# Altium footprint library SIMCOM.PcbLib: 6 footprints
Each footprint in its own frame and in the unit in brackets; x right, y up, seen from the top. Pads: shape width x height; smd on the part's side, far side on the other; paste and mask are expansions set on the pad; w line width, h text height; cw(c..) or ccw(c..) is an arc to the next point about the centre after c.
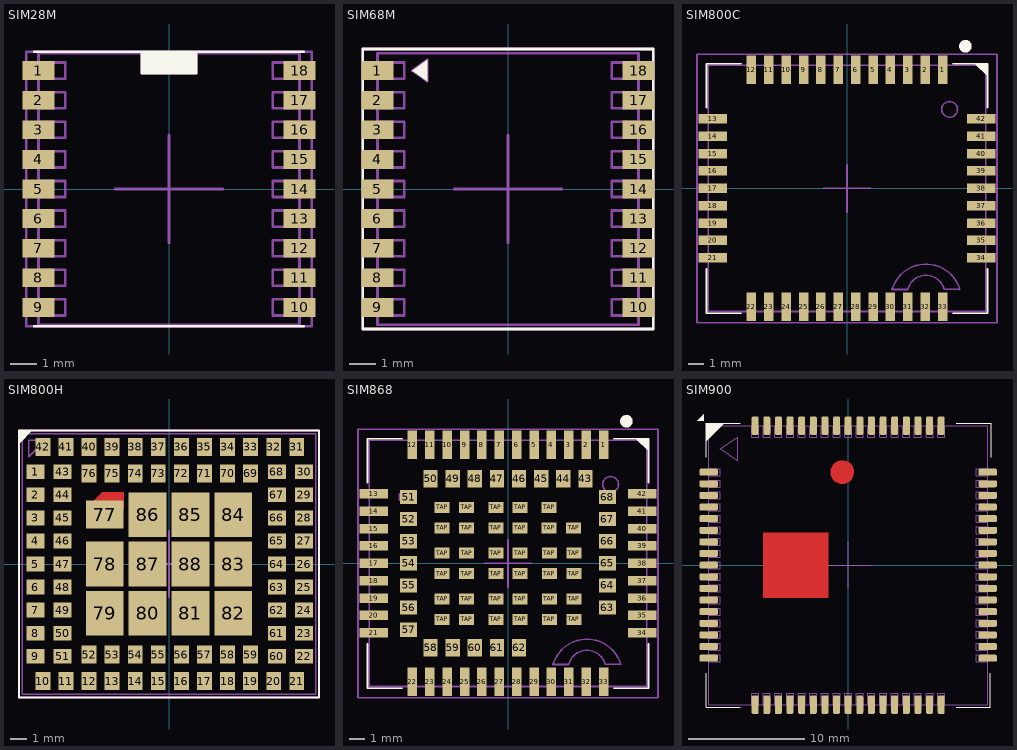
[diagram p0: the footprints below, top view; thin cyan lines are the x and y axes]

## SIM28M [mm]
height 2.5
pads (18):
  rect 1.2x0.7 smd: 1(-4.85,4.4) 2(-4.85,3.3) 3(-4.85,2.2) 4(-4.85,1.1) 5(-4.85,0) 6(-4.85,-1.1) 7(-4.85,-2.2) 8(-4.85,-3.3) 9(-4.85,-4.4) 10(4.85,-4.4) 11(4.85,-3.3) 12(4.85,-2.2) 13(4.85,-1.1) 14(4.85,0) 15(4.85,1.1) 16(4.85,2.2) 17(4.85,3.3) 18(4.85,4.4)
Top Overlay:
  region: -1,5.1 1,5.1 1,4.3 -1,4.3
  lines w0.1: -5,-5.1 5,-5.1 ; -5,5.1 5,5.1 ; -1,5.1 -1,4.3 1,4.3 1,5.1
Top Package:
  lines w0.1: -1,5.05 -1,4.3 1,4.3 1,5.05 ; 4.85,2.5 3.85,2.5 3.85,1.9 4.85,1.9 ; -4.85,-4.7 ccw(c-5.15,-4.4) -4.85,-4.1 ; -4.85,-4.7 -3.85,-4.7 -3.85,-4.1 -4.85,-4.1 ; -4.85,-4.7 -4.85,-5.05 4.85,-5.05 4.85,-4.7 ; -4.85,-4.1 -4.85,-3.6 ; -4.85,-3.6 ccw(c-5.15,-3.3) -4.85,-3 ; -4.85,-3.6 -3.85,-3.6 -3.85,-3 -4.85,-3 ; -4.85,-3 -4.85,-2.5 ; -4.85,-2.5 ccw(c-5.15,-2.2) -4.85,-1.9 ; -4.85,-2.5 -3.85,-2.5 -3.85,-1.9 -4.85,-1.9 ; -4.85,-1.9 -4.85,-1.4 ; -4.85,-1.4 ccw(c-5.15,-1.1) -4.85,-0.8 ; -4.85,-1.4 -3.85,-1.4 -3.85,-0.8 -4.85,-0.8 ; -4.85,-0.8 -4.85,-0.3 ; -4.85,-0.3 ccw(c-5.15,0) -4.85,0.3 ; -4.85,-0.3 -3.85,-0.3 -3.85,0.3 -4.85,0.3 ; -4.85,0.3 -4.85,0.8 ; -4.85,0.8 ccw(c-5.15,1.1) -4.85,1.4 ; -4.85,0.8 -3.85,0.8 -3.85,1.4 -4.85,1.4 ; -4.85,1.4 -4.85,1.9 ; -4.85,1.9 ccw(c-5.15,2.2) -4.85,2.5 ; -4.85,1.9 -3.85,1.9 -3.85,2.5 -4.85,2.5 ; -4.85,2.5 -4.85,3 ; -4.85,3 ccw(c-5.15,3.3) -4.85,3.6 ; -4.85,3 -3.85,3 -3.85,3.6 -4.85,3.6 ; -4.85,3.6 -4.85,4.1 ; -4.85,4.1 ccw(c-5.15,4.4) -4.85,4.7 ; -4.85,4.1 -3.85,4.1 -3.85,4.7 -4.85,4.7 ; -4.85,4.7 -4.85,5.05 4.85,5.05 4.85,4.7 ; 4.85,-4.7 cw(c5.15,-4.4) 4.85,-4.1 ; 4.85,-4.7 3.85,-4.7 3.85,-4.1 4.85,-4.1 ; 4.85,-4.1 4.85,-3.6 ; 4.85,-3.6 cw(c5.15,-3.3) 4.85,-3 ; 4.85,-3.6 3.85,-3.6 3.85,-3 4.85,-3 ; 4.85,-3 4.85,-2.5 ; 4.85,-2.5 cw(c5.15,-2.2) 4.85,-1.9 ; 4.85,-2.5 3.85,-2.5 3.85,-1.9 4.85,-1.9 ; 4.85,-1.9 4.85,-1.4 ; 4.85,-1.4 cw(c5.15,-1.1) 4.85,-0.8 ; 4.85,-1.4 3.85,-1.4 3.85,-0.8 4.85,-0.8 ; 4.85,-0.8 4.85,-0.3 ; 4.85,-0.3 cw(c5.15,0) 4.85,0.3 ; 4.85,-0.3 3.85,-0.3 3.85,0.3 4.85,0.3 ; 4.85,0.3 4.85,0.8 ; 4.85,0.8 cw(c5.15,1.1) 4.85,1.4 ; 4.85,0.8 3.85,0.8 3.85,1.4 4.85,1.4 ; 4.85,1.4 4.85,1.9 ; 4.85,1.9 cw(c5.15,2.2) 4.85,2.5 4.85,3 ; 4.85,3 cw(c5.15,3.3) 4.85,3.6 ; 4.85,3 3.85,3 3.85,3.6 4.85,3.6 ; 4.85,3.6 4.85,4.1 ; 4.85,4.1 cw(c4.846,4.4) 4.85,4.7 ; 4.85,4.1 3.85,4.1 3.85,4.7 4.85,4.7
Top Border:
  lines w0.1: -2,0 0,0 ; 0,-2 0,0 ; 0,2 0,0 ; 2,0 0,0 ; -5.3,-5.1 5.3,-5.1 5.3,5.1 -5.3,5.1 -5.3,-5.1
3D body "SIM28M.stp": height 2.55, standoff -0.01, extent -4.86,-5.05 4.86,5.05

## SIM68M [mm]
height 2.5
pads (18):
  rect 1.2x0.7 smd: 1(-4.85,4.4) 2(-4.85,3.3) 3(-4.85,2.2) 4(-4.85,1.1) 5(-4.85,0) 6(-4.85,-1.1) 7(-4.85,-2.2) 8(-4.85,-3.3) 9(-4.85,-4.4) 10(4.85,-4.4) 11(4.85,-3.3) 12(4.85,-2.2) 13(4.85,-1.1) 14(4.85,0) 15(4.85,1.1) 16(4.85,2.2) 17(4.85,3.3) 18(4.85,4.4)
Top Overlay:
  region: -3,4 -3.55,4.4 -3,4.8
  lines w0.1: -5.4,-5.2 -5.4,5.2 5.4,5.2 5.4,-5.2 -5.4,-5.2
Top Package:
  lines w0.1: 4.85,2.5 3.85,2.5 3.85,1.9 4.85,1.9 ; -4.85,-4.7 ccw(c-5.15,-4.4) -4.85,-4.1 ; -4.85,-4.7 -3.85,-4.7 -3.85,-4.1 -4.85,-4.1 ; -4.85,-4.7 -4.85,-5.05 4.85,-5.05 4.85,-4.7 ; -4.85,-4.1 -4.85,-3.6 ; -4.85,-3.6 ccw(c-5.15,-3.3) -4.85,-3 ; -4.85,-3.6 -3.85,-3.6 -3.85,-3 -4.85,-3 ; -4.85,-3 -4.85,-2.5 ; -4.85,-2.5 ccw(c-5.15,-2.2) -4.85,-1.9 ; -4.85,-2.5 -3.85,-2.5 -3.85,-1.9 -4.85,-1.9 ; -4.85,-1.9 -4.85,-1.4 ; -4.85,-1.4 ccw(c-5.15,-1.1) -4.85,-0.8 ; -4.85,-1.4 -3.85,-1.4 -3.85,-0.8 -4.85,-0.8 ; -4.85,-0.8 -4.85,-0.3 ; -4.85,-0.3 ccw(c-5.15,0) -4.85,0.3 ; -4.85,-0.3 -3.85,-0.3 -3.85,0.3 -4.85,0.3 ; -4.85,0.3 -4.85,0.8 ; -4.85,0.8 ccw(c-5.15,1.1) -4.85,1.4 ; -4.85,0.8 -3.85,0.8 -3.85,1.4 -4.85,1.4 ; -4.85,1.4 -4.85,1.9 ; -4.85,1.9 ccw(c-5.15,2.2) -4.85,2.5 ; -4.85,1.9 -3.85,1.9 -3.85,2.5 -4.85,2.5 ; -4.85,2.5 -4.85,3 ; -4.85,3 ccw(c-5.15,3.3) -4.85,3.6 ; -4.85,3 -3.85,3 -3.85,3.6 -4.85,3.6 ; -4.85,3.6 -4.85,4.1 ; -4.85,4.1 ccw(c-5.15,4.4) -4.85,4.7 ; -4.85,4.1 -3.85,4.1 -3.85,4.7 -4.85,4.7 ; -4.85,4.7 -4.85,5.05 4.85,5.05 4.85,4.7 ; 4.85,-4.7 cw(c5.15,-4.4) 4.85,-4.1 ; 4.85,-4.7 3.85,-4.7 3.85,-4.1 4.85,-4.1 ; 4.85,-4.1 4.85,-3.6 ; 4.85,-3.6 cw(c5.15,-3.3) 4.85,-3 ; 4.85,-3.6 3.85,-3.6 3.85,-3 4.85,-3 ; 4.85,-3 4.85,-2.5 ; 4.85,-2.5 cw(c5.15,-2.2) 4.85,-1.9 ; 4.85,-2.5 3.85,-2.5 3.85,-1.9 4.85,-1.9 ; 4.85,-1.9 4.85,-1.4 ; 4.85,-1.4 cw(c5.15,-1.1) 4.85,-0.8 ; 4.85,-1.4 3.85,-1.4 3.85,-0.8 4.85,-0.8 ; 4.85,-0.8 4.85,-0.3 ; 4.85,-0.3 cw(c5.15,0) 4.85,0.3 ; 4.85,-0.3 3.85,-0.3 3.85,0.3 4.85,0.3 ; 4.85,0.3 4.85,0.8 ; 4.85,0.8 cw(c5.15,1.1) 4.85,1.4 ; 4.85,0.8 3.85,0.8 3.85,1.4 4.85,1.4 ; 4.85,1.4 4.85,1.9 ; 4.85,1.9 cw(c5.15,2.2) 4.85,2.5 4.85,3 ; 4.85,3 cw(c5.15,3.3) 4.85,3.6 ; 4.85,3 3.85,3 3.85,3.6 4.85,3.6 ; 4.85,3.6 4.85,4.1 ; 4.85,4.1 cw(c4.846,4.4) 4.85,4.7 ; 4.85,4.1 3.85,4.1 3.85,4.7 4.85,4.7 ; -3.55,4.4 -3,4 -3,4.8 -3.55,4.4
Top Border:
  lines w0.1: -2,0 0,0 ; 0,-2 0,0 ; 0,2 0,0 ; 2,0 0,0 ; -5.4,-5.2 5.4,-5.2 5.4,5.2 -5.4,5.2 -5.4,-5.2
3D body "SIM28M.stp": height 2.55, standoff -0.01, extent -4.86,-5.05 4.86,5.05

## SIM800C [mm]
height 2.4
pads (42):
  rect 0.6x1.8 smd: 1(6.05,7.5) 2(4.95,7.5) 3(3.85,7.5) 4(2.75,7.5) 5(1.65,7.5) 6(0.55,7.5) 7(-0.55,7.5) 8(-1.65,7.5) 9(-2.75,7.5) 10(-3.85,7.5) 11(-4.95,7.5) 12(-6.05,7.5) 22(-6.05,-7.5) 23(-4.95,-7.5) 24(-3.85,-7.5) 25(-2.75,-7.5) 26(-1.65,-7.5) 27(-0.55,-7.5) 28(0.55,-7.5) 29(1.65,-7.5) 30(2.75,-7.5) 31(3.85,-7.5) 32(4.95,-7.5) 33(6.05,-7.5)
  rect 1.8x0.6 smd: 13(-8.5,4.4) 14(-8.5,3.3) 15(-8.5,2.2) 16(-8.5,1.1) 17(-8.5,0) 18(-8.5,-1.1) 19(-8.5,-2.2) 20(-8.5,-3.3) 21(-8.5,-4.4) 34(8.5,-4.4) 35(8.5,-3.3) 36(8.5,-2.2) 37(8.5,-1.1) 38(8.5,0) 39(8.5,1.1) 40(8.5,2.2) 41(8.5,3.3) 42(8.5,4.4)
Top Overlay:
  circle w0.4: c7.5,9 r0.2
  region: 8.1,7.9 8.9,7.9 8.9,7.1
  lines w0.1: -8.9,-5.1 -8.9,-7.9 -6.7,-7.9 ; -8.9,5.1 -8.9,7.9 -6.7,7.9 ; 6.7,-7.9 8.9,-7.9 8.9,-5.1 ; 6.7,7.9 8.9,7.9 8.9,5.1
Top Package:
  circle w0.1: c6.5,5 r0.5
  lines w0.1: -8.8,-4.6 -8,-4.6 -8,-4.2 -8.8,-4.2 ; -8.8,-3.5 -8,-3.5 -8,-3.1 -8.8,-3.1 ; -8.8,-2.4 -8,-2.4 -8,-2 -8.8,-2 ; -8.8,-1.3 -8,-1.3 -8,-0.9 -8.8,-0.9 ; -8.8,-0.2 -8,-0.2 -8,0.2 -8.8,0.2 ; -8.8,0.9 -8,0.9 -8,1.3 -8.8,1.3 ; -8.8,2 -8,2 -8,2.4 -8.8,2.4 ; -8.8,3.1 -8,3.1 -8,3.5 -8.8,3.5 ; -8.8,4.2 -8,4.2 -8,4.6 -8.8,4.6 ; -6.25,-7.8 -6.25,-7 -5.85,-7 -5.85,-7.8 ; -6.25,7.8 -6.25,7 -5.85,7 -5.85,7.8 ; -5.15,-7.8 -5.15,-7 -4.75,-7 -4.75,-7.8 ; -5.15,7.8 -5.15,7 -4.75,7 -4.75,7.8 ; -4.05,-7.8 -4.05,-7 -3.65,-7 -3.65,-7.8 ; -4.05,7.8 -4.05,7 -3.65,7 -3.65,7.8 ; -2.95,-7.8 -2.95,-7 -2.55,-7 -2.55,-7.8 ; -2.95,7.8 -2.95,7 -2.55,7 -2.55,7.8 ; -1.85,-7.8 -1.85,-7 -1.45,-7 -1.45,-7.8 ; -1.85,7.8 -1.85,7 -1.45,7 -1.45,7.8 ; -0.75,-7.8 -0.75,-7 -0.35,-7 -0.35,-7.8 ; -0.75,7.8 -0.75,7 -0.35,7 -0.35,7.8 ; 0.35,-7.8 0.35,-7 0.75,-7 0.75,-7.8 ; 0.35,7.8 0.35,7 0.75,7 0.75,7.8 ; 1.45,-7.8 1.45,-7 1.85,-7 1.85,-7.8 ; 1.45,7.8 1.45,7 1.85,7 1.85,7.8 ; 2.55,-7.8 2.55,-7 2.95,-7 2.95,-7.8 ; 2.55,7.8 2.55,7 2.95,7 2.95,7.8 ; 3.65,-7.8 3.65,-7 4.05,-7 4.05,-7.8 ; 3.65,7.8 3.65,7 4.05,7 4.05,7.8 ; 3.85,-6.408 2.85,-6.408 cw(c5,-7.042) 7.15,-6.407 ; 3.85,-6.4 cw(c5,-6.685) 6.15,-6.4 7.15,-6.4 ; 4.75,-7.8 4.75,-6.8 5.15,-6.8 5.15,-7.8 ; 4.75,7.8 4.75,7 5.15,7 5.15,7.8 ; 5.85,-7.8 5.85,-7 6.25,-7 6.25,-7.8 ; 5.85,7.8 5.85,7 6.25,7 6.25,7.8 ; 8.8,-4.6 8,-4.6 8,-4.2 8.8,-4.2 ; 8.8,-3.5 8,-3.5 8,-3.1 8.8,-3.1 ; 8.8,-2.4 8,-2.4 8,-2 8.8,-2 ; 8.8,-1.3 8,-1.3 8,-0.9 8.8,-0.9 ; 8.8,-0.2 8,-0.2 8,0.2 8.8,0.2 ; 8.8,0.9 8,0.9 8,1.3 8.8,1.3 ; 8.8,2 8,2 8,2.4 8.8,2.4 ; 8.8,3.1 8,3.1 8,3.5 8.8,3.5 ; 8.8,4.2 8,4.2 8,4.6 8.8,4.6 ; -8.8,-7.8 -8.8,7.8 8.8,7.8 8.8,-7.8 -8.8,-7.8
Top Border:
  lines w0.1: -1.5,0 0,0 ; 0,-1.5 0,0 ; 0,1.5 0,0 ; 1.5,0 0,0 ; -9.5,-8.5 -9.5,8.5 9.5,8.5 9.5,-8.5 -9.5,-8.5
3D body "SIM800C.stp": height 2.43, standoff 0.09, extent -8.801,-7.843 8.799,7.857

## SIM800H [mm]
height 2.4
pads (88):
  rect 1.1x0.9 smd: 1(-8.1,5.6) 2(-8.1,4.2) 3(-8.1,2.8) 4(-8.1,1.4) 5(-8.1,0) 6(-8.1,-1.4) 7(-8.1,-2.8) 8(-8.1,-4.2) 9(-8.1,-5.6) 22(8.2,-5.6) 23(8.2,-4.2) 24(8.2,-2.8) 25(8.2,-1.4) 26(8.2,0) 27(8.2,1.4) 28(8.2,2.8) 29(8.2,4.2) 30(8.2,5.6) 43(-6.45,5.6) 44(-6.45,4.2) 45(-6.45,2.8) 46(-6.45,1.4) 47(-6.45,0) 48(-6.45,-1.4) 49(-6.45,-2.8) 50(-6.45,-4.2) 51(-6.45,-5.6) 60(6.55,-5.6) 61(6.55,-4.2) 62(6.55,-2.8) 63(6.55,-1.4) 64(6.55,0) 65(6.55,1.4) 66(6.55,2.8) 67(6.55,4.2) 68(6.55,5.6)
  rect 0.9x1.1 smd: 10(-7.65,-7.1) 11(-6.25,-7.1) 12(-4.85,-7.1) 13(-3.45,-7.1) 14(-2.05,-7.1) 15(-0.65,-7.1) 16(0.75,-7.1) 17(2.15,-7.1) 18(3.55,-7.1) 19(4.95,-7.1) 20(6.35,-7.1) 21(7.75,-7.1) 31(7.75,7.1) 32(6.35,7.1) 33(4.95,7.1) 34(3.55,7.1) 35(2.15,7.1) 36(0.75,7.1) 37(-0.65,7.1) 38(-2.05,7.1) 39(-3.45,7.1) 40(-4.85,7.1) 41(-6.25,7.1) 42(-7.65,7.1) 52(-4.85,-5.5) 53(-3.45,-5.5) 54(-2.05,-5.5) 55(-0.65,-5.5) 56(0.75,-5.5) 57(2.15,-5.5) 58(3.55,-5.5) 59(4.95,-5.5) 69(4.95,5.5) 70(3.55,5.5) 71(2.15,5.5) 72(0.75,5.5) 73(-0.65,5.5) 74(-2.05,5.5) 75(-3.45,5.5) 76(-4.85,5.5)
  rect 2.3x1.7 smd: 77(-3.9,3)
  rect 2.3x2.7 smd: 78(-3.9,0) 79(-3.9,-3) 80(-1.3,-3) 81(1.3,-3) 82(3.9,-3) 83(3.9,0) 84(3.9,3) 85(1.3,3) 86(-1.3,3) 87(-1.3,0) 88(1.3,0)
Top Layer:
  region: -2.75,3.35 -2.75,4.35 -4.05,4.35 -5.05,3.35
Top Overlay:
  region: -9.1,7.3 -9.1,8.1 -8.3,8.1
  lines w0.1: -9.1,-8.1 9.1,-8.1 9.1,8.1 -9.1,8.1 -9.1,-8.1
Top Package:
  lines w0.1: -9.1,-8.1 9.1,-8.1 9.1,8.1 -9.1,8.1 -9.1,-8.1
Top Border:
  lines w0.1: -2,0 0,0 ; 0,-2 0,0 ; 0,2 0,0 ; 2,0 0,0 ; -8.9,-7.9 8.9,-7.9 8.9,7.9 -8.9,7.9 -8.9,-7.9 ; -8.5,6.5 -8.5,7.5 -7.5,7.5 -8.5,6.5

## SIM868 [mm]
height 2.4
pads (103):
  rect 0.6x1.8 smd: 1(6.05,7.5) 2(4.95,7.5) 3(3.85,7.5) 4(2.75,7.5) 5(1.65,7.5) 6(0.55,7.5) 7(-0.55,7.5) 8(-1.65,7.5) 9(-2.75,7.5) 10(-3.85,7.5) 11(-4.95,7.5) 12(-6.05,7.5) 22(-6.05,-7.5) 23(-4.95,-7.5) 24(-3.85,-7.5) 25(-2.75,-7.5) 26(-1.65,-7.5) 27(-0.55,-7.5) 28(0.55,-7.5) 29(1.65,-7.5) 30(2.75,-7.5) 31(3.85,-7.5) 32(4.95,-7.5) 33(6.05,-7.5)
  rect 1.8x0.6 smd: 13(-8.5,4.4) 14(-8.5,3.3) 15(-8.5,2.2) 16(-8.5,1.1) 17(-8.5,0) 18(-8.5,-1.1) 19(-8.5,-2.2) 20(-8.5,-3.3) 21(-8.5,-4.4) 34(8.5,-4.4) 35(8.5,-3.3) 36(8.5,-2.2) 37(8.5,-1.1) 38(8.5,0) 39(8.5,1.1) 40(8.5,2.2) 41(8.5,3.3) 42(8.5,4.4)
  rect 0.9x1.1 smd: 43(4.9,5.35) 44(3.5,5.35) 45(2.1,5.35) 46(0.7,5.35) 47(-0.7,5.35) 48(-2.1,5.35) 49(-3.5,5.35) 50(-4.9,5.35) 58(-4.9,-5.35) 59(-3.5,-5.35) 60(-2.1,-5.35) 61(-0.7,-5.35) 62(0.7,-5.35)
  rect 1.1x0.9 smd: 51(-6.3,4.2) 52(-6.3,2.8) 53(-6.3,1.4) 54(-6.3,0) 55(-6.3,-1.4) 56(-6.3,-2.8) 57(-6.3,-4.2) 63(6.3,-2.8) 64(6.3,-1.4) 65(6.3,0) 66(6.3,1.4) 67(6.3,2.8) 68(6.3,4.2)
  rect 0.95x0.7 smd: TAP(-4.175,-3.55) TAP(-4.175,-2.25) TAP(-4.175,-0.65) TAP(-4.175,0.65) TAP(-4.175,2.25) TAP(-4.175,3.55) TAP(-2.625,-3.55) TAP(-2.625,-2.25) TAP(-2.625,-0.65) TAP(-2.625,0.65) TAP(-2.625,2.25) TAP(-2.625,3.55) TAP(-0.775,-3.55) TAP(-0.775,-2.25) TAP(-0.775,-0.65) TAP(-0.775,0.65) TAP(-0.775,2.25) TAP(-0.775,3.55) TAP(0.775,-3.55) TAP(0.775,-2.25) TAP(0.775,-0.65) TAP(0.775,0.65) TAP(0.775,2.25) TAP(0.775,3.55) TAP(2.61,2.25) TAP(2.61,3.55) TAP(2.625,-3.55) TAP(2.625,-2.25) TAP(2.625,-0.65) TAP(2.625,0.65) TAP(4.16,2.25) TAP(4.175,-3.55) TAP(4.175,-2.25) TAP(4.175,-0.65) TAP(4.175,0.65)
Top Overlay:
  circle w0.4: c7.5,9 r0.2
  region: 8.1,7.9 8.9,7.9 8.9,7.1
  lines w0.1: -8.9,-5.1 -8.9,-7.9 -6.7,-7.9 ; -8.9,5.1 -8.9,7.9 -6.7,7.9 ; 6.7,-7.9 8.9,-7.9 8.9,-5.1 ; 6.7,7.9 8.9,7.9 8.9,5.1
Top Package:
  circle w0.1: c6.5,5 r0.5
  lines w0.1: -8.8,-4.6 -8,-4.6 -8,-4.2 -8.8,-4.2 ; -8.8,-3.5 -8,-3.5 -8,-3.1 -8.8,-3.1 ; -8.8,-2.4 -8,-2.4 -8,-2 -8.8,-2 ; -8.8,-1.3 -8,-1.3 -8,-0.9 -8.8,-0.9 ; -8.8,-0.2 -8,-0.2 -8,0.2 -8.8,0.2 ; -8.8,0.9 -8,0.9 -8,1.3 -8.8,1.3 ; -8.8,2 -8,2 -8,2.4 -8.8,2.4 ; -8.8,3.1 -8,3.1 -8,3.5 -8.8,3.5 ; -8.8,4.2 -8,4.2 -8,4.6 -8.8,4.6 ; -6.25,-7.8 -6.25,-7 -5.85,-7 -5.85,-7.8 ; -6.25,7.8 -6.25,7 -5.85,7 -5.85,7.8 ; -5.15,-7.8 -5.15,-7 -4.75,-7 -4.75,-7.8 ; -5.15,7.8 -5.15,7 -4.75,7 -4.75,7.8 ; -4.05,-7.8 -4.05,-7 -3.65,-7 -3.65,-7.8 ; -4.05,7.8 -4.05,7 -3.65,7 -3.65,7.8 ; -2.95,-7.8 -2.95,-7 -2.55,-7 -2.55,-7.8 ; -2.95,7.8 -2.95,7 -2.55,7 -2.55,7.8 ; -1.85,-7.8 -1.85,-7 -1.45,-7 -1.45,-7.8 ; -1.85,7.8 -1.85,7 -1.45,7 -1.45,7.8 ; -0.75,-7.8 -0.75,-7 -0.35,-7 -0.35,-7.8 ; -0.75,7.8 -0.75,7 -0.35,7 -0.35,7.8 ; 0.35,-7.8 0.35,-7 0.75,-7 0.75,-7.8 ; 0.35,7.8 0.35,7 0.75,7 0.75,7.8 ; 1.45,-7.8 1.45,-7 1.85,-7 1.85,-7.8 ; 1.45,7.8 1.45,7 1.85,7 1.85,7.8 ; 2.55,-7.8 2.55,-7 2.95,-7 2.95,-7.8 ; 2.55,7.8 2.55,7 2.95,7 2.95,7.8 ; 3.65,-7.8 3.65,-7 4.05,-7 4.05,-7.8 ; 3.65,7.8 3.65,7 4.05,7 4.05,7.8 ; 3.85,-6.408 2.85,-6.408 cw(c5,-7.042) 7.15,-6.407 ; 3.85,-6.4 cw(c5,-6.685) 6.15,-6.4 7.15,-6.4 ; 4.75,-7.8 4.75,-6.8 5.15,-6.8 5.15,-7.8 ; 4.75,7.8 4.75,7 5.15,7 5.15,7.8 ; 5.85,-7.8 5.85,-7 6.25,-7 6.25,-7.8 ; 5.85,7.8 5.85,7 6.25,7 6.25,7.8 ; 8.8,-4.6 8,-4.6 8,-4.2 8.8,-4.2 ; 8.8,-3.5 8,-3.5 8,-3.1 8.8,-3.1 ; 8.8,-2.4 8,-2.4 8,-2 8.8,-2 ; 8.8,-1.3 8,-1.3 8,-0.9 8.8,-0.9 ; 8.8,-0.2 8,-0.2 8,0.2 8.8,0.2 ; 8.8,0.9 8,0.9 8,1.3 8.8,1.3 ; 8.8,2 8,2 8,2.4 8.8,2.4 ; 8.8,3.1 8,3.1 8,3.5 8.8,3.5 ; 8.8,4.2 8,4.2 8,4.6 8.8,4.6 ; -8.8,-7.8 8.8,-7.8 8.8,7.8 -8.8,7.8 -8.8,-7.8 ; -6.875,4 -6.225,4 -6.225,4.4 -6.875,4.4 -6.875,4
Top Border:
  lines w0.1: -1.5,0 0,0 ; 0,-1.5 0,0 ; 0,1.5 0,0 ; 1.5,0 0,0 ; -9.5,-8.5 9.5,-8.5 9.5,8.5 -9.5,8.5 -9.5,-8.5
3D body "SIM800C.stp": height 2.43, standoff 0.09, extent -8.801,-7.843 8.799,7.857

## SIM900 [mm]
height 3
pads (68):
  rrect50% 1.6x0.6 smd: 1(-12,8) 2(-12,7) 3(-12,6) 4(-12,5) 5(-12,4) 6(-12,3) 7(-12,2) 8(-12,1) 9(-12,0) 10(-12,-1) 11(-12,-2) 12(-12,-3) 13(-12,-4) 14(-12,-5) 15(-12,-6) 16(-12,-7) 17(-12,-8) 35(12,-8) 36(12,-7) 37(12,-6) 38(12,-5) 39(12,-4) 40(12,-3) 41(12,-2) 42(12,-1) 43(12,0) 44(12,1) 45(12,2) 46(12,3) 47(12,4) 48(12,5) 49(12,6) 50(12,7) 51(12,8)
  rrect50% 0.6x1.6 smd: 18(-8,-12) 19(-7,-12) 20(-6,-12) 21(-5,-12) 22(-4,-12) 23(-3,-12) 24(-2,-12) 25(-1,-12) 26(0,-12) 27(1,-12) 28(2,-12) 29(3,-12) 30(4,-12) 31(5,-12) 32(6,-12) 33(7,-12) 34(8,-12) 52(8,12) 53(7,12) 54(6,12) 55(5,12) 56(4,12) 57(3,12) 58(2,12) 59(1,12) 60(0,12) 61(-1,12) 62(-2,12) 63(-3,12) 64(-4,12) 65(-5,12) 66(-6,12) 67(-7,12) 68(-8,12)
Top Layer:
  pour cut-out: -1.107,8.821 -0.9,8.925 -0.721,9 -0.5,9 -0.286,9 -0.125,8.925 0.064,8.837 0.225,8.725 0.336,8.563 0.4,8.425 0.489,8.232 0.5,8 0.425,7.65 0.313,7.394 0.11,7.18 -0.1,7.075 -0.286,7 -0.721,7 -0.9,7.075 -1.107,7.179 -1.317,7.395 -1.4,7.575 -1.489,7.769 -1.5,8 -1.489,8.232 -1.4,8.425 -1.317,8.605
  pour cut-out: -7.3,2.8 -1.7,2.8 -1.7,-2.8 -7.3,-2.8
  lines w0.254: -12,0 -12,0 ; 0,-12 0,-12
Top Overlay:
  region: -10.707,12.16 -12.2,10.64 -12.2,12.16
  region: -12.4,13 -12.4,12.4 -13,12.4
  lines w0.1: -12.206,10.687 -10.696,12.196 ; -12.2,-9.3 -12.2,-12.2 -9.3,-12.2 ; -12.2,9.3 -12.2,12.2 -9.3,12.2 ; 9.3,-12.2 12.2,-12.2 12.2,-9.3 ; 9.3,12.2 12.3,12.2 12.3,9.3
Top Package:
  drawing of 279 lines, arcs and shapes, not listed
Top Border:
  lines w0.1: -2,0 0,0 ; 0,-2 0,0 ; 0,2 0,0 ; 2,0 0,0
3D body "User Library-SIM900.step": height 3.02, standoff 0, extent -12,-12 12,12